# Altium integrated library Capacitors - Ceramic - 0201.IntLib: 1723 symbols (part 12 of 38)
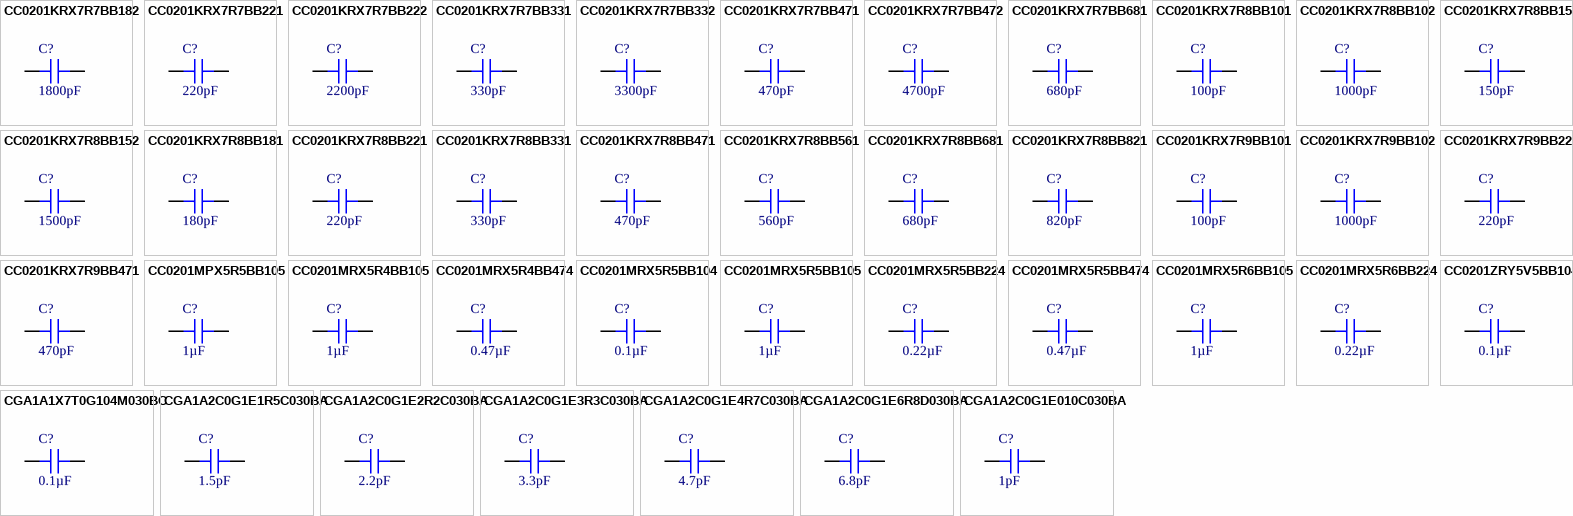
[diagram p54: symbols CC0201KRX7R7BB182 to CGA1A2C0G1E010C030BA]

## CC0201MRX5R5BB474
designator C?, comment 0.47µF
CAP CER 0.47UF 6.3V X5R 0201; Part Number: CC0201MRX5R5BB474; Manufacturer: Yageo; Tolerance: ±20%; Value: 0.47µF; Applications: General Purpose; Capacitance: 0.47µF; ComponentLink1Description: Datasheet; ComponentLink1URL: https://www.yageo.com/upload/media/product/productsearch/datasheet/mlcc/UPY-GPHC_X5R_4V-to-50V_25.pdf; ComponentLink2Description: DigiKey Link; ComponentLink2URL: http://digikey.com/product-detail/en/yageo/CC0201MRX5R5BB474/311-1614-1-ND/5195516; Device Package: 0201 (0603 Metric); LastUpdated: 9/2/2020 12:58:13 AM; Lifecycle Status: Active; Minimum Order: 1; Mounting Type: Surface Mount, MLCC; Operating Temperature: -55°C ~ 85°C; Package / Case: 0201 (0603 Metric); Packaging: TapeAndReel; PartId: 1455; Part Status: Active; Price: 0.03; Series: CC; Size / Dimension: 0.024" L x 0.012" W (0.60mm x 0.30mm); Supplier 1: DigiKey; Supplier Part Number 1: 311-1614-1-ND; Temperature Coefficient: X5R; Thickness (Max): 0.013" (0.33mm); Voltage - Rated: 6.3V
footprint CAP 0201_0603
pins: 1, 2

## CC0201MRX5R6BB105
designator C?, comment 1µF
CAP CER 1UF 10V X5R 0201; Part Number: CC0201MRX5R6BB105; Manufacturer: Yageo; Tolerance: ±20%; Value: 1µF; Applications: General Purpose; Capacitance: 1µF; ComponentLink1Description: Datasheet; ComponentLink1URL: https://www.yageo.com/upload/media/product/productsearch/datasheet/mlcc/UPY-GPHC_X5R_4V-to-50V_25.pdf; ComponentLink2Description: DigiKey Link; ComponentLink2URL: http://digikey.com/product-detail/en/yageo/CC0201MRX5R6BB105/311-3474-1-ND/7164495; Device Package: 0201 (0603 Metric); LastUpdated: 9/2/2020 12:59:16 AM; Lifecycle Status: Active; Minimum Order: 1; Mounting Type: Surface Mount, MLCC; Operating Temperature: -55°C ~ 85°C; Package / Case: 0201 (0603 Metric); Packaging: TapeAndReel; PartId: 738; Part Status: Active; Price: 0.03; Series: CC; Size / Dimension: 0.024" L x 0.012" W (0.60mm x 0.30mm); Supplier 1: DigiKey; Supplier Part Number 1: 311-3474-1-ND; Temperature Coefficient: X5R; Thickness (Max): 0.014" (0.35mm); Voltage - Rated: 10V
footprint CAP 0201_0603
pins: 1, 2

## CC0201MRX5R6BB224
designator C?, comment 0.22µF
CAP CER 0.22UF 10V X5R 0201; Part Number: CC0201MRX5R6BB224; Manufacturer: Yageo; Tolerance: ±20%; Value: 0.22µF; Applications: General Purpose; Capacitance: 0.22µF; ComponentLink1Description: Datasheet; ComponentLink1URL: https://www.yageo.com/upload/media/product/productsearch/datasheet/mlcc/UPY-GPHC_X5R_4V-to-50V_25.pdf; ComponentLink2Description: DigiKey Link; ComponentLink2URL: http://digikey.com/product-detail/en/yageo/CC0201MRX5R6BB224/311-3701-1-ND/8024790; Device Package: 0201 (0603 Metric); LastUpdated: 9/2/2020 12:59:13 AM; Lifecycle Status: Active; Minimum Order: 1; Mounting Type: Surface Mount, MLCC; Operating Temperature: -55°C ~ 85°C; Package / Case: 0201 (0603 Metric); Packaging: TapeAndReel; PartId: 765; Part Status: Active; Price: 0.01; Series: CC; Size / Dimension: 0.024" L x 0.012" W (0.60mm x 0.30mm); Supplier 1: DigiKey; Supplier Part Number 1: 311-3701-1-ND; Temperature Coefficient: X5R; Thickness (Max): 0.013" (0.33mm); Voltage - Rated: 10V
footprint CAP 0201_0603
pins: 1, 2

## CC0201ZRY5V5BB104
designator C?, comment 0.1µF
CAP CER 0.1UF 6.3V Y5V 0201; Part Number: CC0201ZRY5V5BB104; Manufacturer: Yageo; Temperature Coefficient: Y5V (F); Tolerance: -20%, +80%; Value: 0.1µF; Applications: General Purpose; Capacitance: 0.1µF; ComponentLink1Description: Datasheet; ComponentLink1URL: http://www.yageo.com/documents/recent/UPY-GPHC_Y5V_6.3V-to-50V_8.pdf; ComponentLink2Description: DigiKey Link; ComponentLink2URL: http://digikey.com/product-detail/en/yageo/CC0201ZRY5V5BB104/311-1413-1-ND/2833719; Device Package: 0201 (0603 Metric); LastUpdated: 9/2/2020 12:58:35 AM; Lifecycle Status: Active; Minimum Order: 1; Mounting Type: Surface Mount, MLCC; Operating Temperature: -30°C ~ 85°C; Package / Case: 0201 (0603 Metric); Packaging: TapeAndReel; PartId: 1218; Part Status: Active; Price: 0.01; Series: CC; Size / Dimension: 0.024" L x 0.012" W (0.60mm x 0.30mm); Supplier 1: DigiKey; Supplier Part Number 1: 311-1413-1-ND; Thickness (Max): 0.013" (0.33mm); Voltage - Rated: 6.3V
footprint CAP 0201_0603
pins: 1, 2

## CGA1A1X7T0G104M030BC
designator C?, comment 0.1µF
AUTOMOTIVE GRADE,0201,X7T,4V,0.1; Part Number: CGA1A1X7T0G104M030BC; Manufacturer: TDK Corporation; Tolerance: ±20%; Value: 0.1µF; Applications: Automotive; Capacitance: 0.1µF; ComponentLink1Description: Datasheet; ComponentLink1URL: https://product.tdk.com/info/en/catalog/datasheets/mlcc_automotive_general_en.pdf?ref_disty=digikey; ComponentLink2Description: DigiKey Link; ComponentLink2URL: http://digikey.com/product-detail/en/tdk-corporation/CGA1A1X7T0G104M030BC/445-CGA1A1X7T0G104M030BCCT-ND/10415021; Device Package: 0201 (0603 Metric); LastUpdated: 9/2/2020 12:58:40 AM; Lifecycle Status: Active; Minimum Order: 1; Mounting Type: Surface Mount, MLCC; Operating Temperature: -55°C ~ 125°C; Package / Case: 0201 (0603 Metric); Packaging: TapeAndReel; PartId: 1165; Part Status: Active; Price: 0.02; Ratings: AEC-Q200; Series: CGA; Size / Dimension: 0.024" L x 0.012" W (0.60mm x 0.30mm); Supplier 1: DigiKey; Supplier Part Number 1: 445-CGA1A1X7T0G104M030BCCT-ND; Temperature Coefficient: X7T; Thickness (Max): 0.013" (0.33mm); Voltage - Rated: 4V
footprint CAP 0201_0603
pins: 1, 2

## CGA1A2C0G1E1R5C030BA
designator C?, comment 1.5pF
CAP CER 1.5PF 25V C0G 0201; Part Number: CGA1A2C0G1E1R5C030BA; Manufacturer: TDK Corporation; Temperature Coefficient: C0G, NP0; Tolerance: ±0.25pF; Value: 1.5pF; Applications: Automotive; Capacitance: 1.5pF; ComponentLink1Description: Datasheet; ComponentLink1URL: https://product.tdk.com/info/en/catalog/datasheets/mlcc_automotive_general_en.pdf?ref_disty=digikey; ComponentLink2Description: DigiKey Link; ComponentLink2URL: http://digikey.com/product-detail/en/tdk-corporation/CGA1A2C0G1E1R5C030BA/445-9037-1-ND/3648710; Device Package: 0201 (0603 Metric); LastUpdated: 9/2/2020 12:59:20 AM; Lifecycle Status: Active; Minimum Order: 1; Mounting Type: Surface Mount, MLCC; Operating Temperature: -55°C ~ 125°C; Package / Case: 0201 (0603 Metric); Packaging: TapeAndReel; PartId: 698; Part Status: Active; Price: 0.01; Ratings: AEC-Q200; Series: CGA; Size / Dimension: 0.024" L x 0.012" W (0.60mm x 0.30mm); Supplier 1: DigiKey; Supplier Part Number 1: 445-9037-1-ND; Thickness (Max): 0.013" (0.33mm); Voltage - Rated: 25V
footprint CAP 0201_0603
pins: 1, 2

## CGA1A2C0G1E2R2C030BA
designator C?, comment 2.2pF
CAP CER 2.2PF 25V C0G 0201; Part Number: CGA1A2C0G1E2R2C030BA; Manufacturer: TDK Corporation; Temperature Coefficient: C0G, NP0; Tolerance: ±0.25pF; Value: 2.2pF; Applications: Automotive; Capacitance: 2.2pF; ComponentLink1Description: Datasheet; ComponentLink1URL: https://product.tdk.com/info/en/catalog/datasheets/mlcc_automotive_general_en.pdf?ref_disty=digikey; ComponentLink2Description: DigiKey Link; ComponentLink2URL: http://digikey.com/product-detail/en/tdk-corporation/CGA1A2C0G1E2R2C030BA/445-9017-1-ND/3648714; Device Package: 0201 (0603 Metric); LastUpdated: 9/2/2020 12:59:43 AM; Lifecycle Status: Active; Minimum Order: 1; Mounting Type: Surface Mount, MLCC; Operating Temperature: -55°C ~ 125°C; Package / Case: 0201 (0603 Metric); Packaging: TapeAndReel; PartId: 421; Part Status: Active; Price: 0.01; Ratings: AEC-Q200; Series: CGA; Size / Dimension: 0.024" L x 0.012" W (0.60mm x 0.30mm); Supplier 1: DigiKey; Supplier Part Number 1: 445-9017-1-ND; Thickness (Max): 0.013" (0.33mm); Voltage - Rated: 25V
footprint CAP 0201_0603
pins: 1, 2

## CGA1A2C0G1E3R3C030BA
designator C?, comment 3.3pF
CAP CER 3.3PF 25V C0G 0201; Part Number: CGA1A2C0G1E3R3C030BA; Manufacturer: TDK Corporation; Temperature Coefficient: C0G, NP0; Tolerance: ±0.25pF; Value: 3.3pF; Applications: Automotive; Capacitance: 3.3pF; ComponentLink1Description: Datasheet; ComponentLink1URL: https://product.tdk.com/info/en/catalog/datasheets/mlcc_automotive_general_en.pdf?ref_disty=digikey; ComponentLink2Description: DigiKey Link; ComponentLink2URL: http://digikey.com/product-detail/en/tdk-corporation/CGA1A2C0G1E3R3C030BA/445-9045-1-ND/3648732; Device Package: 0201 (0603 Metric); LastUpdated: 9/2/2020 12:58:47 AM; Lifecycle Status: Active; Minimum Order: 1; Mounting Type: Surface Mount, MLCC; Operating Temperature: -55°C ~ 125°C; Package / Case: 0201 (0603 Metric); Packaging: TapeAndReel; PartId: 1075; Part Status: Active; Price: 0.01; Ratings: AEC-Q200; Series: CGA; Size / Dimension: 0.024" L x 0.012" W (0.60mm x 0.30mm); Supplier 1: DigiKey; Supplier Part Number 1: 445-9045-1-ND; Thickness (Max): 0.013" (0.33mm); Voltage - Rated: 25V
footprint CAP 0201_0603
pins: 1, 2

## CGA1A2C0G1E4R7C030BA
designator C?, comment 4.7pF
CAP CER 4.7PF 25V C0G 0201; Part Number: CGA1A2C0G1E4R7C030BA; Manufacturer: TDK Corporation; Temperature Coefficient: C0G, NP0; Tolerance: ±0.25pF; Value: 4.7pF; Applications: Automotive; Capacitance: 4.7pF; ComponentLink1Description: Datasheet; ComponentLink1URL: https://product.tdk.com/info/en/catalog/datasheets/mlcc_automotive_general_en.pdf?ref_disty=digikey; ComponentLink2Description: DigiKey Link; ComponentLink2URL: http://digikey.com/product-detail/en/tdk-corporation/CGA1A2C0G1E4R7C030BA/445-9044-1-ND/3648669; Device Package: 0201 (0603 Metric); LastUpdated: 9/2/2020 12:59:21 AM; Lifecycle Status: Active; Minimum Order: 1; Mounting Type: Surface Mount, MLCC; Operating Temperature: -55°C ~ 125°C; Package / Case: 0201 (0603 Metric); Packaging: TapeAndReel; PartId: 678; Part Status: Active; Price: 0.01; Ratings: AEC-Q200; Series: CGA; Size / Dimension: 0.024" L x 0.012" W (0.60mm x 0.30mm); Supplier 1: DigiKey; Supplier Part Number 1: 445-9044-1-ND; Thickness (Max): 0.013" (0.33mm); Voltage - Rated: 25V
footprint CAP 0201_0603
pins: 1, 2

## CGA1A2C0G1E6R8D030BA
designator C?, comment 6.8pF
CAP CER 6.8PF 25V C0G 0201; Part Number: CGA1A2C0G1E6R8D030BA; Manufacturer: TDK Corporation; Temperature Coefficient: C0G, NP0; Tolerance: ±0.5pF; Value: 6.8pF; Applications: Automotive; Capacitance: 6.8pF; ComponentLink1Description: Datasheet; ComponentLink1URL: https://product.tdk.com/info/en/catalog/datasheets/mlcc_automotive_general_en.pdf?ref_disty=digikey; ComponentLink2Description: DigiKey Link; ComponentLink2URL: http://digikey.com/product-detail/en/tdk-corporation/CGA1A2C0G1E6R8D030BA/445-9026-1-ND/3648677; Device Package: 0201 (0603 Metric); LastUpdated: 9/2/2020 12:58:48 AM; Lifecycle Status: Active; Minimum Order: 1; Mounting Type: Surface Mount, MLCC; Operating Temperature: -55°C ~ 125°C; Package / Case: 0201 (0603 Metric); Packaging: TapeAndReel; PartId: 1061; Part Status: Active; Price: 0.01; Ratings: AEC-Q200; Series: CGA; Size / Dimension: 0.024" L x 0.012" W (0.60mm x 0.30mm); Supplier 1: DigiKey; Supplier Part Number 1: 445-9026-1-ND; Thickness (Max): 0.013" (0.33mm); Voltage - Rated: 25V
footprint CAP 0201_0603
pins: 1, 2

## CGA1A2C0G1E010C030BA
designator C?, comment 1pF
CAP CER 1PF 25V C0G 0201; Part Number: CGA1A2C0G1E010C030BA; Manufacturer: TDK Corporation; Temperature Coefficient: C0G, NP0; Tolerance: ±0.25pF; Value: 1pF; Applications: Automotive; Capacitance: 1pF; ComponentLink1Description: Datasheet; ComponentLink1URL: https://product.tdk.com/info/en/catalog/datasheets/mlcc_automotive_general_en.pdf?ref_disty=digikey; ComponentLink2Description: DigiKey Link; ComponentLink2URL: http://digikey.com/product-detail/en/tdk-corporation/CGA1A2C0G1E010C030BA/445-9047-1-ND/3648705; Device Package: 0201 (0603 Metric); LastUpdated: 9/2/2020 12:58:48 AM; Lifecycle Status: Active; Minimum Order: 1; Mounting Type: Surface Mount, MLCC; Operating Temperature: -55°C ~ 125°C; Package / Case: 0201 (0603 Metric); Packaging: TapeAndReel; PartId: 1070; Part Status: Active; Price: 0.01; Ratings: AEC-Q200; Series: CGA; Size / Dimension: 0.024" L x 0.012" W (0.60mm x 0.30mm); Supplier 1: DigiKey; Supplier Part Number 1: 445-9047-1-ND; Thickness (Max): 0.013" (0.33mm); Voltage - Rated: 25V
footprint CAP 0201_0603
pins: 1, 2

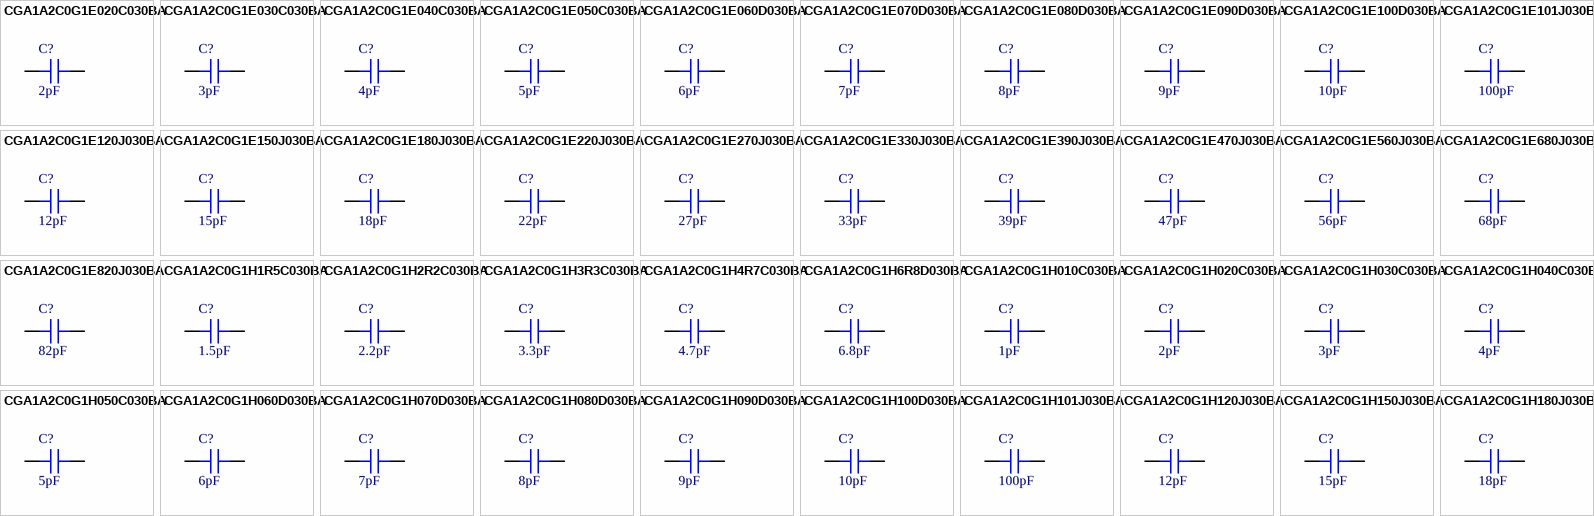
[diagram p13: symbols CGA1A2C0G1E020C030BA to CGA1A2C0G1H180J030BA]

## CGA1A2C0G1E020C030BA
designator C?, comment 2pF
CAP CER 2PF 25V C0G 0201; Part Number: CGA1A2C0G1E020C030BA; Manufacturer: TDK Corporation; Temperature Coefficient: C0G, NP0; Tolerance: ±0.25pF; Value: 2pF; Applications: Automotive; Capacitance: 2pF; ComponentLink1Description: Datasheet; ComponentLink1URL: https://product.tdk.com/info/en/catalog/datasheets/mlcc_automotive_general_en.pdf?ref_disty=digikey; ComponentLink2Description: DigiKey Link; ComponentLink2URL: http://digikey.com/product-detail/en/tdk-corporation/CGA1A2C0G1E020C030BA/445-12047-1-ND/3953713; Device Package: 0201 (0603 Metric); LastUpdated: 9/2/2020 12:59:24 AM; Lifecycle Status: Active; Minimum Order: 1; Mounting Type: Surface Mount, MLCC; Operating Temperature: -55°C ~ 125°C; Package / Case: 0201 (0603 Metric); Packaging: TapeAndReel; PartId: 650; Part Status: Active; Price: 0.01; Ratings: AEC-Q200; Series: CGA; Size / Dimension: 0.024" L x 0.012" W (0.60mm x 0.30mm); Supplier 1: DigiKey; Supplier Part Number 1: 445-12047-1-ND; Thickness (Max): 0.013" (0.33mm); Voltage - Rated: 25V
footprint CAP 0201_0603
pins: 1, 2

## CGA1A2C0G1E030C030BA
designator C?, comment 3pF
CAP CER 3PF 25V C0G 0201; Part Number: CGA1A2C0G1E030C030BA; Manufacturer: TDK Corporation; Temperature Coefficient: C0G, NP0; Tolerance: ±0.25pF; Value: 3pF; Applications: Automotive; Capacitance: 3pF; ComponentLink1Description: Datasheet; ComponentLink1URL: https://product.tdk.com/info/en/catalog/datasheets/mlcc_automotive_general_en.pdf?ref_disty=digikey; ComponentLink2Description: DigiKey Link; ComponentLink2URL: http://digikey.com/product-detail/en/tdk-corporation/CGA1A2C0G1E030C030BA/445-9029-1-ND/3648717; Device Package: 0201 (0603 Metric); LastUpdated: 9/2/2020 12:59:24 AM; Lifecycle Status: Active; Minimum Order: 1; Mounting Type: Surface Mount, MLCC; Operating Temperature: -55°C ~ 125°C; Package / Case: 0201 (0603 Metric); Packaging: TapeAndReel; PartId: 651; Part Status: Active; Price: 0.01; Ratings: AEC-Q200; Series: CGA; Size / Dimension: 0.024" L x 0.012" W (0.60mm x 0.30mm); Supplier 1: DigiKey; Supplier Part Number 1: 445-9029-1-ND; Thickness (Max): 0.013" (0.33mm); Voltage - Rated: 25V
footprint CAP 0201_0603
pins: 1, 2

## CGA1A2C0G1E040C030BA
designator C?, comment 4pF
CAP CER 4PF 25V C0G 0201; Part Number: CGA1A2C0G1E040C030BA; Manufacturer: TDK Corporation; Temperature Coefficient: C0G, NP0; Tolerance: ±0.25pF; Value: 4pF; Applications: Automotive; Capacitance: 4pF; ComponentLink1Description: Datasheet; ComponentLink1URL: https://product.tdk.com/info/en/catalog/datasheets/mlcc_automotive_general_en.pdf?ref_disty=digikey; ComponentLink2Description: DigiKey Link; ComponentLink2URL: http://digikey.com/product-detail/en/tdk-corporation/CGA1A2C0G1E040C030BA/445-12048-1-ND/3953714; Device Package: 0201 (0603 Metric); LastUpdated: 9/2/2020 12:59:25 AM; Lifecycle Status: Active; Minimum Order: 1; Mounting Type: Surface Mount, MLCC; Operating Temperature: -55°C ~ 125°C; Package / Case: 0201 (0603 Metric); Packaging: TapeAndReel; PartId: 635; Part Status: Active; Price: 0.01; Ratings: AEC-Q200; Series: CGA; Size / Dimension: 0.024" L x 0.012" W (0.60mm x 0.30mm); Supplier 1: DigiKey; Supplier Part Number 1: 445-12048-1-ND; Thickness (Max): 0.013" (0.33mm); Voltage - Rated: 25V
footprint CAP 0201_0603
pins: 1, 2

## CGA1A2C0G1E050C030BA
designator C?, comment 5pF
CAP CER 5PF 25V C0G 0201; Part Number: CGA1A2C0G1E050C030BA; Manufacturer: TDK Corporation; Temperature Coefficient: C0G, NP0; Tolerance: ±0.25pF; Value: 5pF; Applications: Automotive; Capacitance: 5pF; ComponentLink1Description: Datasheet; ComponentLink1URL: https://product.tdk.com/info/en/catalog/datasheets/mlcc_automotive_general_en.pdf?ref_disty=digikey; ComponentLink2Description: DigiKey Link; ComponentLink2URL: http://digikey.com/product-detail/en/tdk-corporation/CGA1A2C0G1E050C030BA/445-9043-1-ND/3648618; Device Package: 0201 (0603 Metric); LastUpdated: 9/2/2020 12:59:24 AM; Lifecycle Status: Active; Minimum Order: 1; Mounting Type: Surface Mount, MLCC; Operating Temperature: -55°C ~ 125°C; Package / Case: 0201 (0603 Metric); Packaging: TapeAndReel; PartId: 645; Part Status: Active; Price: 0.01; Ratings: AEC-Q200; Series: CGA; Size / Dimension: 0.024" L x 0.012" W (0.60mm x 0.30mm); Supplier 1: DigiKey; Supplier Part Number 1: 445-9043-1-ND; Thickness (Max): 0.013" (0.33mm); Voltage - Rated: 25V
footprint CAP 0201_0603
pins: 1, 2

## CGA1A2C0G1E060D030BA
designator C?, comment 6pF
CAP CER 6PF 25V C0G 0201; Part Number: CGA1A2C0G1E060D030BA; Manufacturer: TDK Corporation; Temperature Coefficient: C0G, NP0; Tolerance: ±0.5pF; Value: 6pF; Applications: Automotive; Capacitance: 6pF; ComponentLink1Description: Datasheet; ComponentLink1URL: https://product.tdk.com/info/en/catalog/datasheets/mlcc_automotive_general_en.pdf?ref_disty=digikey; ComponentLink2Description: DigiKey Link; ComponentLink2URL: http://digikey.com/product-detail/en/tdk-corporation/CGA1A2C0G1E060D030BA/445-12049-1-ND/3953715; Device Package: 0201 (0603 Metric); LastUpdated: 9/2/2020 12:59:25 AM; Lifecycle Status: Active; Minimum Order: 1; Mounting Type: Surface Mount, MLCC; Operating Temperature: -55°C ~ 125°C; Package / Case: 0201 (0603 Metric); Packaging: TapeAndReel; PartId: 637; Part Status: Active; Price: 0.01; Ratings: AEC-Q200; Series: CGA; Size / Dimension: 0.024" L x 0.012" W (0.60mm x 0.30mm); Supplier 1: DigiKey; Supplier Part Number 1: 445-12049-1-ND; Thickness (Max): 0.013" (0.33mm); Voltage - Rated: 25V
footprint CAP 0201_0603
pins: 1, 2

## CGA1A2C0G1E070D030BA
designator C?, comment 7pF
CAP CER 7PF 25V C0G 0201; Part Number: CGA1A2C0G1E070D030BA; Manufacturer: TDK Corporation; Temperature Coefficient: C0G, NP0; Tolerance: ±0.5pF; Value: 7pF; Applications: Automotive; Capacitance: 7pF; ComponentLink1Description: Datasheet; ComponentLink1URL: https://product.tdk.com/info/en/catalog/datasheets/mlcc_automotive_general_en.pdf?ref_disty=digikey; ComponentLink2Description: DigiKey Link; ComponentLink2URL: http://digikey.com/product-detail/en/tdk-corporation/CGA1A2C0G1E070D030BA/445-12050-1-ND/3953716; Device Package: 0201 (0603 Metric); LastUpdated: 9/2/2020 12:59:24 AM; Lifecycle Status: Active; Minimum Order: 1; Mounting Type: Surface Mount, MLCC; Operating Temperature: -55°C ~ 125°C; Package / Case: 0201 (0603 Metric); Packaging: TapeAndReel; PartId: 641; Part Status: Active; Price: 0.01; Ratings: AEC-Q200; Series: CGA; Size / Dimension: 0.024" L x 0.012" W (0.60mm x 0.30mm); Supplier 1: DigiKey; Supplier Part Number 1: 445-12050-1-ND; Thickness (Max): 0.013" (0.33mm); Voltage - Rated: 25V
footprint CAP 0201_0603
pins: 1, 2

## CGA1A2C0G1E080D030BA
designator C?, comment 8pF
CAP CER 8PF 25V C0G 0201; Part Number: CGA1A2C0G1E080D030BA; Manufacturer: TDK Corporation; Temperature Coefficient: C0G, NP0; Tolerance: ±0.5pF; Value: 8pF; Applications: Automotive; Capacitance: 8pF; ComponentLink1Description: Datasheet; ComponentLink1URL: https://product.tdk.com/info/en/catalog/datasheets/mlcc_automotive_general_en.pdf?ref_disty=digikey; ComponentLink2Description: DigiKey Link; ComponentLink2URL: http://digikey.com/product-detail/en/tdk-corporation/CGA1A2C0G1E080D030BA/445-12051-1-ND/3953717; Device Package: 0201 (0603 Metric); LastUpdated: 9/2/2020 12:59:25 AM; Lifecycle Status: Active; Minimum Order: 1; Mounting Type: Surface Mount, MLCC; Operating Temperature: -55°C ~ 125°C; Package / Case: 0201 (0603 Metric); Packaging: TapeAndReel; PartId: 636; Part Status: Active; Price: 0.01; Ratings: AEC-Q200; Series: CGA; Size / Dimension: 0.024" L x 0.012" W (0.60mm x 0.30mm); Supplier 1: DigiKey; Supplier Part Number 1: 445-12051-1-ND; Thickness (Max): 0.013" (0.33mm); Voltage - Rated: 25V
footprint CAP 0201_0603
pins: 1, 2

## CGA1A2C0G1E090D030BA
designator C?, comment 9pF
CAP CER 9PF 25V C0G 0201; Part Number: CGA1A2C0G1E090D030BA; Manufacturer: TDK Corporation; Temperature Coefficient: C0G, NP0; Tolerance: ±0.5pF; Value: 9pF; Applications: Automotive; Capacitance: 9pF; ComponentLink1Description: Datasheet; ComponentLink1URL: https://product.tdk.com/info/en/catalog/datasheets/mlcc_automotive_general_en.pdf?ref_disty=digikey; ComponentLink2Description: DigiKey Link; ComponentLink2URL: http://digikey.com/product-detail/en/tdk-corporation/CGA1A2C0G1E090D030BA/445-12052-1-ND/3953718; Device Package: 0201 (0603 Metric); LastUpdated: 9/2/2020 12:58:48 AM; Lifecycle Status: Active; Minimum Order: 1; Mounting Type: Surface Mount, MLCC; Operating Temperature: -55°C ~ 125°C; Package / Case: 0201 (0603 Metric); Packaging: TapeAndReel; PartId: 1072; Part Status: Active; Price: 0.01; Ratings: AEC-Q200; Series: CGA; Size / Dimension: 0.024" L x 0.012" W (0.60mm x 0.30mm); Supplier 1: DigiKey; Supplier Part Number 1: 445-12052-1-ND; Thickness (Max): 0.013" (0.33mm); Voltage - Rated: 25V
footprint CAP 0201_0603
pins: 1, 2

## CGA1A2C0G1E100D030BA
designator C?, comment 10pF
CAP CER 10PF 25V C0G 0201; Part Number: CGA1A2C0G1E100D030BA; Manufacturer: TDK Corporation; Temperature Coefficient: C0G, NP0; Tolerance: ±0.5pF; Value: 10pF; Applications: Automotive; Capacitance: 10pF; ComponentLink1Description: Datasheet; ComponentLink1URL: https://product.tdk.com/info/en/catalog/datasheets/mlcc_automotive_general_en.pdf?ref_disty=digikey; ComponentLink2Description: DigiKey Link; ComponentLink2URL: http://digikey.com/product-detail/en/tdk-corporation/CGA1A2C0G1E100D030BA/445-9023-1-ND/3648633; Device Package: 0201 (0603 Metric); LastUpdated: 9/2/2020 12:59:25 AM; Lifecycle Status: Active; Minimum Order: 1; Mounting Type: Surface Mount, MLCC; Operating Temperature: -55°C ~ 125°C; Package / Case: 0201 (0603 Metric); Packaging: TapeAndReel; PartId: 640; Part Status: Active; Price: 0.01; Ratings: AEC-Q200; Series: CGA; Size / Dimension: 0.024" L x 0.012" W (0.60mm x 0.30mm); Supplier 1: DigiKey; Supplier Part Number 1: 445-9023-1-ND; Thickness (Max): 0.013" (0.33mm); Voltage - Rated: 25V
footprint CAP 0201_0603
pins: 1, 2

## CGA1A2C0G1E101J030BA
designator C?, comment 100pF
CAP CER 100PF 25V C0G 0201; Part Number: CGA1A2C0G1E101J030BA; Manufacturer: TDK Corporation; Temperature Coefficient: C0G, NP0; Tolerance: ±5%; Value: 100pF; Applications: Automotive; Capacitance: 100pF; ComponentLink1Description: Datasheet; ComponentLink1URL: https://product.tdk.com/info/en/catalog/datasheets/mlcc_automotive_general_en.pdf?ref_disty=digikey; ComponentLink2Description: DigiKey Link; ComponentLink2URL: http://digikey.com/product-detail/en/tdk-corporation/CGA1A2C0G1E101J030BA/445-9014-1-ND/3648671; Device Package: 0201 (0603 Metric); LastUpdated: 9/2/2020 12:59:06 AM; Lifecycle Status: Active; Minimum Order: 1; Mounting Type: Surface Mount, MLCC; Operating Temperature: -55°C ~ 125°C; Package / Case: 0201 (0603 Metric); Packaging: TapeAndReel; PartId: 852; Part Status: Active; Price: 0.01; Ratings: AEC-Q200; Series: CGA; Size / Dimension: 0.024" L x 0.012" W (0.60mm x 0.30mm); Supplier 1: DigiKey; Supplier Part Number 1: 445-9014-1-ND; Thickness (Max): 0.013" (0.33mm); Voltage - Rated: 25V
footprint CAP 0201_0603
pins: 1, 2

## CGA1A2C0G1E120J030BA
designator C?, comment 12pF
CAP CER 12PF 25V C0G 0201; Part Number: CGA1A2C0G1E120J030BA; Manufacturer: TDK Corporation; Temperature Coefficient: C0G, NP0; Tolerance: ±5%; Value: 12pF; Applications: Automotive; Capacitance: 12pF; ComponentLink1Description: Datasheet; ComponentLink1URL: https://product.tdk.com/info/en/catalog/datasheets/mlcc_automotive_general_en.pdf?ref_disty=digikey; ComponentLink2Description: DigiKey Link; ComponentLink2URL: http://digikey.com/product-detail/en/tdk-corporation/CGA1A2C0G1E120J030BA/445-9070-1-ND/3648638; Device Package: 0201 (0603 Metric); LastUpdated: 9/2/2020 12:59:24 AM; Lifecycle Status: Active; Minimum Order: 1; Mounting Type: Surface Mount, MLCC; Operating Temperature: -55°C ~ 125°C; Package / Case: 0201 (0603 Metric); Packaging: TapeAndReel; PartId: 644; Part Status: Active; Price: 0.01; Ratings: AEC-Q200; Series: CGA; Size / Dimension: 0.024" L x 0.012" W (0.60mm x 0.30mm); Supplier 1: DigiKey; Supplier Part Number 1: 445-9070-1-ND; Thickness (Max): 0.013" (0.33mm); Voltage - Rated: 25V
footprint CAP 0201_0603
pins: 1, 2

## CGA1A2C0G1E150J030BA
designator C?, comment 15pF
CAP CER 15PF 25V C0G 0201; Part Number: CGA1A2C0G1E150J030BA; Manufacturer: TDK Corporation; Temperature Coefficient: C0G, NP0; Tolerance: ±5%; Value: 15pF; Applications: Automotive; Capacitance: 15pF; ComponentLink1Description: Datasheet; ComponentLink1URL: https://product.tdk.com/info/en/catalog/datasheets/mlcc_automotive_general_en.pdf?ref_disty=digikey; ComponentLink2Description: DigiKey Link; ComponentLink2URL: http://digikey.com/product-detail/en/tdk-corporation/CGA1A2C0G1E150J030BA/445-9034-1-ND/3648614; Device Package: 0201 (0603 Metric); LastUpdated: 9/2/2020 12:57:54 AM; Lifecycle Status: Active; Minimum Order: 1; Mounting Type: Surface Mount, MLCC; Operating Temperature: -55°C ~ 125°C; Package / Case: 0201 (0603 Metric); Packaging: TapeAndReel; PartId: 1675; Part Status: Active; Price: 0.01; Ratings: AEC-Q200; Series: CGA; Size / Dimension: 0.024" L x 0.012" W (0.60mm x 0.30mm); Supplier 1: DigiKey; Supplier Part Number 1: 445-9034-1-ND; Thickness (Max): 0.013" (0.33mm); Voltage - Rated: 25V
footprint CAP 0201_0603
pins: 1, 2

## CGA1A2C0G1E180J030BA
designator C?, comment 18pF
CAP CER 18PF 25V C0G 0201; Part Number: CGA1A2C0G1E180J030BA; Manufacturer: TDK Corporation; Temperature Coefficient: C0G, NP0; Tolerance: ±5%; Value: 18pF; Applications: Automotive; Capacitance: 18pF; ComponentLink1Description: Datasheet; ComponentLink1URL: https://product.tdk.com/info/en/catalog/datasheets/mlcc_automotive_general_en.pdf?ref_disty=digikey; ComponentLink2Description: DigiKey Link; ComponentLink2URL: http://digikey.com/product-detail/en/tdk-corporation/CGA1A2C0G1E180J030BA/445-9067-1-ND/3648623; Device Package: 0201 (0603 Metric); LastUpdated: 9/2/2020 12:59:24 AM; Lifecycle Status: Active; Minimum Order: 1; Mounting Type: Surface Mount, MLCC; Operating Temperature: -55°C ~ 125°C; Package / Case: 0201 (0603 Metric); Packaging: TapeAndReel; PartId: 643; Part Status: Active; Price: 0.01; Ratings: AEC-Q200; Series: CGA; Size / Dimension: 0.024" L x 0.012" W (0.60mm x 0.30mm); Supplier 1: DigiKey; Supplier Part Number 1: 445-9067-1-ND; Thickness (Max): 0.013" (0.33mm); Voltage - Rated: 25V
footprint CAP 0201_0603
pins: 1, 2

## CGA1A2C0G1E220J030BA
designator C?, comment 22pF
CAP CER 22PF 25V C0G 0201; Part Number: CGA1A2C0G1E220J030BA; Manufacturer: TDK Corporation; Temperature Coefficient: C0G, NP0; Tolerance: ±5%; Value: 22pF; Applications: Automotive; Capacitance: 22pF; ComponentLink1Description: Datasheet; ComponentLink1URL: https://product.tdk.com/info/en/catalog/datasheets/mlcc_automotive_general_en.pdf?ref_disty=digikey; ComponentLink2Description: DigiKey Link; ComponentLink2URL: http://digikey.com/product-detail/en/tdk-corporation/CGA1A2C0G1E220J030BA/445-9020-1-ND/3648632; Device Package: 0201 (0603 Metric); LastUpdated: 9/2/2020 12:57:53 AM; Lifecycle Status: Active; Minimum Order: 1; Mounting Type: Surface Mount, MLCC; Operating Temperature: -55°C ~ 125°C; Package / Case: 0201 (0603 Metric); Packaging: TapeAndReel; PartId: 1684; Part Status: Active; Price: 0.01; Ratings: AEC-Q200; Series: CGA; Size / Dimension: 0.024" L x 0.012" W (0.60mm x 0.30mm); Supplier 1: DigiKey; Supplier Part Number 1: 445-9020-1-ND; Thickness (Max): 0.013" (0.33mm); Voltage - Rated: 25V
footprint CAP 0201_0603
pins: 1, 2

## CGA1A2C0G1E270J030BA
designator C?, comment 27pF
CAP CER 27PF 25V C0G 0201; Part Number: CGA1A2C0G1E270J030BA; Manufacturer: TDK Corporation; Temperature Coefficient: C0G, NP0; Tolerance: ±5%; Value: 27pF; Applications: Automotive; Capacitance: 27pF; ComponentLink1Description: Datasheet; ComponentLink1URL: https://product.tdk.com/info/en/catalog/datasheets/mlcc_automotive_general_en.pdf?ref_disty=digikey; ComponentLink2Description: DigiKey Link; ComponentLink2URL: http://digikey.com/product-detail/en/tdk-corporation/CGA1A2C0G1E270J030BA/445-9038-1-ND/3648642; Device Package: 0201 (0603 Metric); LastUpdated: 9/2/2020 12:57:53 AM; Lifecycle Status: Active; Minimum Order: 1; Mounting Type: Surface Mount, MLCC; Operating Temperature: -55°C ~ 125°C; Package / Case: 0201 (0603 Metric); Packaging: TapeAndReel; PartId: 1685; Part Status: Active; Price: 0.01; Ratings: AEC-Q200; Series: CGA; Size / Dimension: 0.024" L x 0.012" W (0.60mm x 0.30mm); Supplier 1: DigiKey; Supplier Part Number 1: 445-9038-1-ND; Thickness (Max): 0.013" (0.33mm); Voltage - Rated: 25V
footprint CAP 0201_0603
pins: 1, 2

## CGA1A2C0G1E330J030BA
designator C?, comment 33pF
CAP CER 33PF 25V C0G 0201; Part Number: CGA1A2C0G1E330J030BA; Manufacturer: TDK Corporation; Temperature Coefficient: C0G, NP0; Tolerance: ±5%; Value: 33pF; Applications: Automotive; Capacitance: 33pF; ComponentLink1Description: Datasheet; ComponentLink1URL: https://product.tdk.com/info/en/catalog/datasheets/mlcc_automotive_general_en.pdf?ref_disty=digikey; ComponentLink2Description: DigiKey Link; ComponentLink2URL: http://digikey.com/product-detail/en/tdk-corporation/CGA1A2C0G1E330J030BA/445-9059-1-ND/3648650; Device Package: 0201 (0603 Metric); LastUpdated: 9/2/2020 12:57:54 AM; Lifecycle Status: Active; Minimum Order: 1; Mounting Type: Surface Mount, MLCC; Operating Temperature: -55°C ~ 125°C; Package / Case: 0201 (0603 Metric); Packaging: TapeAndReel; PartId: 1676; Part Status: Active; Price: 0.01; Ratings: AEC-Q200; Series: CGA; Size / Dimension: 0.024" L x 0.012" W (0.60mm x 0.30mm); Supplier 1: DigiKey; Supplier Part Number 1: 445-9059-1-ND; Thickness (Max): 0.013" (0.33mm); Voltage - Rated: 25V
footprint CAP 0201_0603
pins: 1, 2

## CGA1A2C0G1E390J030BA
designator C?, comment 39pF
CAP CER 39PF 25V C0G 0201; Part Number: CGA1A2C0G1E390J030BA; Manufacturer: TDK Corporation; Temperature Coefficient: C0G, NP0; Tolerance: ±5%; Value: 39pF; Applications: Automotive; Capacitance: 39pF; ComponentLink1Description: Datasheet; ComponentLink1URL: https://product.tdk.com/info/en/catalog/datasheets/mlcc_automotive_general_en.pdf?ref_disty=digikey; ComponentLink2Description: DigiKey Link; ComponentLink2URL: http://digikey.com/product-detail/en/tdk-corporation/CGA1A2C0G1E390J030BA/445-9021-1-ND/3648658; Device Package: 0201 (0603 Metric); LastUpdated: 9/2/2020 12:59:24 AM; Lifecycle Status: Active; Minimum Order: 1; Mounting Type: Surface Mount, MLCC; Operating Temperature: -55°C ~ 125°C; Package / Case: 0201 (0603 Metric); Packaging: TapeAndReel; PartId: 642; Part Status: Active; Price: 0.01; Ratings: AEC-Q200; Series: CGA; Size / Dimension: 0.024" L x 0.012" W (0.60mm x 0.30mm); Supplier 1: DigiKey; Supplier Part Number 1: 445-9021-1-ND; Thickness (Max): 0.013" (0.33mm); Voltage - Rated: 25V
footprint CAP 0201_0603
pins: 1, 2

## CGA1A2C0G1E470J030BA
designator C?, comment 47pF
CAP CER 47PF 25V C0G 0201; Part Number: CGA1A2C0G1E470J030BA; Manufacturer: TDK Corporation; Temperature Coefficient: C0G, NP0; Tolerance: ±5%; Value: 47pF; Applications: Automotive; Capacitance: 47pF; ComponentLink1Description: Datasheet; ComponentLink1URL: https://product.tdk.com/info/en/catalog/datasheets/mlcc_automotive_general_en.pdf?ref_disty=digikey; ComponentLink2Description: DigiKey Link; ComponentLink2URL: http://digikey.com/product-detail/en/tdk-corporation/CGA1A2C0G1E470J030BA/445-9055-1-ND/3648668; Device Package: 0201 (0603 Metric); LastUpdated: 9/2/2020 12:58:47 AM; Lifecycle Status: Active; Minimum Order: 1; Mounting Type: Surface Mount, MLCC; Operating Temperature: -55°C ~ 125°C; Package / Case: 0201 (0603 Metric); Packaging: TapeAndReel; PartId: 1077; Part Status: Active; Price: 0.01; Ratings: AEC-Q200; Series: CGA; Size / Dimension: 0.024" L x 0.012" W (0.60mm x 0.30mm); Supplier 1: DigiKey; Supplier Part Number 1: 445-9055-1-ND; Thickness (Max): 0.013" (0.33mm); Voltage - Rated: 25V
footprint CAP 0201_0603
pins: 1, 2

## CGA1A2C0G1E560J030BA
designator C?, comment 56pF
CAP CER 56PF 25V C0G 0201; Part Number: CGA1A2C0G1E560J030BA; Manufacturer: TDK Corporation; Temperature Coefficient: C0G, NP0; Tolerance: ±5%; Value: 56pF; Applications: Automotive; Capacitance: 56pF; ComponentLink1Description: Datasheet; ComponentLink1URL: https://product.tdk.com/info/en/catalog/datasheets/mlcc_automotive_general_en.pdf?ref_disty=digikey; ComponentLink2Description: DigiKey Link; ComponentLink2URL: http://digikey.com/product-detail/en/tdk-corporation/CGA1A2C0G1E560J030BA/445-9041-1-ND/3648728; Device Package: 0201 (0603 Metric); LastUpdated: 9/2/2020 12:59:24 AM; Lifecycle Status: Active; Minimum Order: 1; Mounting Type: Surface Mount, MLCC; Operating Temperature: -55°C ~ 125°C; Package / Case: 0201 (0603 Metric); Packaging: TapeAndReel; PartId: 647; Part Status: Active; Price: 0.01; Ratings: AEC-Q200; Series: CGA; Size / Dimension: 0.024" L x 0.012" W (0.60mm x 0.30mm); Supplier 1: DigiKey; Supplier Part Number 1: 445-9041-1-ND; Thickness (Max): 0.013" (0.33mm); Voltage - Rated: 25V
footprint CAP 0201_0603
pins: 1, 2

## CGA1A2C0G1E680J030BA
designator C?, comment 68pF
CAP CER 68PF 25V C0G 0201; Part Number: CGA1A2C0G1E680J030BA; Manufacturer: TDK Corporation; Temperature Coefficient: C0G, NP0; Tolerance: ±5%; Value: 68pF; Applications: Automotive; Capacitance: 68pF; ComponentLink1Description: Datasheet; ComponentLink1URL: https://product.tdk.com/info/en/catalog/datasheets/mlcc_automotive_general_en.pdf?ref_disty=digikey; ComponentLink2Description: DigiKey Link; ComponentLink2URL: http://digikey.com/product-detail/en/tdk-corporation/CGA1A2C0G1E680J030BA/445-9060-1-ND/3648733; Device Package: 0201 (0603 Metric); LastUpdated: 9/2/2020 12:58:48 AM; Lifecycle Status: Active; Minimum Order: 1; Mounting Type: Surface Mount, MLCC; Operating Temperature: -55°C ~ 125°C; Package / Case: 0201 (0603 Metric); Packaging: TapeAndReel; PartId: 1063; Part Status: Active; Price: 0.01; Ratings: AEC-Q200; Series: CGA; Size / Dimension: 0.024" L x 0.012" W (0.60mm x 0.30mm); Supplier 1: DigiKey; Supplier Part Number 1: 445-9060-1-ND; Thickness (Max): 0.013" (0.33mm); Voltage - Rated: 25V
footprint CAP 0201_0603
pins: 1, 2

## CGA1A2C0G1E820J030BA
designator C?, comment 82pF
CAP CER 82PF 25V C0G 0201; Part Number: CGA1A2C0G1E820J030BA; Manufacturer: TDK Corporation; Temperature Coefficient: C0G, NP0; Tolerance: ±5%; Value: 82pF; Applications: Automotive; Capacitance: 82pF; ComponentLink1Description: Datasheet; ComponentLink1URL: https://product.tdk.com/info/en/catalog/datasheets/mlcc_automotive_general_en.pdf?ref_disty=digikey; ComponentLink2Description: DigiKey Link; ComponentLink2URL: http://digikey.com/product-detail/en/tdk-corporation/CGA1A2C0G1E820J030BA/445-9036-1-ND/3648736; Device Package: 0201 (0603 Metric); LastUpdated: 9/2/2020 12:58:48 AM; Lifecycle Status: Active; Minimum Order: 1; Mounting Type: Surface Mount, MLCC; Operating Temperature: -55°C ~ 125°C; Package / Case: 0201 (0603 Metric); Packaging: TapeAndReel; PartId: 1071; Part Status: Active; Price: 0.01; Ratings: AEC-Q200; Series: CGA; Size / Dimension: 0.024" L x 0.012" W (0.60mm x 0.30mm); Supplier 1: DigiKey; Supplier Part Number 1: 445-9036-1-ND; Thickness (Max): 0.013" (0.33mm); Voltage - Rated: 25V
footprint CAP 0201_0603
pins: 1, 2

## CGA1A2C0G1H1R5C030BA
designator C?, comment 1.5pF
CAP CER 1.5PF 50V C0G 0201; Part Number: CGA1A2C0G1H1R5C030BA; Manufacturer: TDK Corporation; Temperature Coefficient: C0G, NP0; Tolerance: ±0.25pF; Value: 1.5pF; Applications: Automotive; Capacitance: 1.5pF; ComponentLink1Description: Datasheet; ComponentLink1URL: https://product.tdk.com/info/en/catalog/datasheets/mlcc_automotive_general_en.pdf?ref_disty=digikey; ComponentLink2Description: DigiKey Link; ComponentLink2URL: http://digikey.com/product-detail/en/tdk-corporation/CGA1A2C0G1H1R5C030BA/445-9048-1-ND/3648706; Device Package: 0201 (0603 Metric); LastUpdated: 9/2/2020 12:59:40 AM; Lifecycle Status: Active; Minimum Order: 1; Mounting Type: Surface Mount, MLCC; Operating Temperature: -55°C ~ 125°C; Package / Case: 0201 (0603 Metric); Packaging: TapeAndReel; PartId: 463; Part Status: Active; Price: 0.02; Ratings: AEC-Q200; Series: CGA; Size / Dimension: 0.024" L x 0.012" W (0.60mm x 0.30mm); Supplier 1: DigiKey; Supplier Part Number 1: 445-9048-1-ND; Thickness (Max): 0.013" (0.33mm); Voltage - Rated: 50V
footprint CAP 0201_0603
pins: 1, 2

## CGA1A2C0G1H2R2C030BA
designator C?, comment 2.2pF
CAP CER 2.2PF 50V C0G 0201; Part Number: CGA1A2C0G1H2R2C030BA; Manufacturer: TDK Corporation; Temperature Coefficient: C0G, NP0; Tolerance: ±0.25pF; Value: 2.2pF; Applications: Automotive; Capacitance: 2.2pF; ComponentLink1Description: Datasheet; ComponentLink1URL: https://product.tdk.com/info/en/catalog/datasheets/mlcc_automotive_general_en.pdf?ref_disty=digikey; ComponentLink2Description: DigiKey Link; ComponentLink2URL: http://digikey.com/product-detail/en/tdk-corporation/CGA1A2C0G1H2R2C030BA/445-9058-1-ND/3648651; Device Package: 0201 (0603 Metric); LastUpdated: 9/2/2020 12:57:52 AM; Lifecycle Status: Active; Minimum Order: 1; Mounting Type: Surface Mount, MLCC; Operating Temperature: -55°C ~ 125°C; Package / Case: 0201 (0603 Metric); Packaging: TapeAndReel; PartId: 1692; Part Status: Active; Price: 0.02; Ratings: AEC-Q200; Series: CGA; Size / Dimension: 0.024" L x 0.012" W (0.60mm x 0.30mm); Supplier 1: DigiKey; Supplier Part Number 1: 445-9058-1-ND; Thickness (Max): 0.013" (0.33mm); Voltage - Rated: 50V
footprint CAP 0201_0603
pins: 1, 2

## CGA1A2C0G1H3R3C030BA
designator C?, comment 3.3pF
CAP CER 3.3PF 50V C0G 0201; Part Number: CGA1A2C0G1H3R3C030BA; Manufacturer: TDK Corporation; Temperature Coefficient: C0G, NP0; Tolerance: ±0.25pF; Value: 3.3pF; Applications: Automotive; Capacitance: 3.3pF; ComponentLink1Description: Datasheet; ComponentLink1URL: https://product.tdk.com/info/en/catalog/datasheets/mlcc_automotive_general_en.pdf?ref_disty=digikey; ComponentLink2Description: DigiKey Link; ComponentLink2URL: http://digikey.com/product-detail/en/tdk-corporation/CGA1A2C0G1H3R3C030BA/445-9046-1-ND/3648718; Device Package: 0201 (0603 Metric); LastUpdated: 9/2/2020 12:59:40 AM; Lifecycle Status: Active; Minimum Order: 1; Mounting Type: Surface Mount, MLCC; Operating Temperature: -55°C ~ 125°C; Package / Case: 0201 (0603 Metric); Packaging: TapeAndReel; PartId: 464; Part Status: Active; Price: 0.02; Ratings: AEC-Q200; Series: CGA; Size / Dimension: 0.024" L x 0.012" W (0.60mm x 0.30mm); Supplier 1: DigiKey; Supplier Part Number 1: 445-9046-1-ND; Thickness (Max): 0.013" (0.33mm); Voltage - Rated: 50V
footprint CAP 0201_0603
pins: 1, 2

## CGA1A2C0G1H4R7C030BA
designator C?, comment 4.7pF
CAP CER 4.7PF 50V C0G 0201; Part Number: CGA1A2C0G1H4R7C030BA; Manufacturer: TDK Corporation; Temperature Coefficient: C0G, NP0; Tolerance: ±0.25pF; Value: 4.7pF; Applications: Automotive; Capacitance: 4.7pF; ComponentLink1Description: Datasheet; ComponentLink1URL: https://product.tdk.com/info/en/catalog/datasheets/mlcc_automotive_general_en.pdf?ref_disty=digikey; ComponentLink2Description: DigiKey Link; ComponentLink2URL: http://digikey.com/product-detail/en/tdk-corporation/CGA1A2C0G1H4R7C030BA/445-9057-1-ND/3648721; Device Package: 0201 (0603 Metric); LastUpdated: 9/2/2020 12:57:52 AM; Lifecycle Status: Active; Minimum Order: 1; Mounting Type: Surface Mount, MLCC; Operating Temperature: -55°C ~ 125°C; Package / Case: 0201 (0603 Metric); Packaging: TapeAndReel; PartId: 1694; Part Status: Active; Price: 0.02; Ratings: AEC-Q200; Series: CGA; Size / Dimension: 0.024" L x 0.012" W (0.60mm x 0.30mm); Supplier 1: DigiKey; Supplier Part Number 1: 445-9057-1-ND; Thickness (Max): 0.013" (0.33mm); Voltage - Rated: 50V
footprint CAP 0201_0603
pins: 1, 2

## CGA1A2C0G1H6R8D030BA
designator C?, comment 6.8pF
CAP CER 6.8PF 50V C0G 0201; Part Number: CGA1A2C0G1H6R8D030BA; Manufacturer: TDK Corporation; Temperature Coefficient: C0G, NP0; Tolerance: ±0.5pF; Value: 6.8pF; Applications: Automotive; Capacitance: 6.8pF; ComponentLink1Description: Datasheet; ComponentLink1URL: https://product.tdk.com/info/en/catalog/datasheets/mlcc_automotive_general_en.pdf?ref_disty=digikey; ComponentLink2Description: DigiKey Link; ComponentLink2URL: http://digikey.com/product-detail/en/tdk-corporation/CGA1A2C0G1H6R8D030BA/445-9068-1-ND/3648622; Device Package: 0201 (0603 Metric); LastUpdated: 9/2/2020 12:58:46 AM; Lifecycle Status: Active; Minimum Order: 1; Mounting Type: Surface Mount, MLCC; Operating Temperature: -55°C ~ 125°C; Package / Case: 0201 (0603 Metric); Packaging: TapeAndReel; PartId: 1087; Part Status: Active; Price: 0.02; Ratings: AEC-Q200; Series: CGA; Size / Dimension: 0.024" L x 0.012" W (0.60mm x 0.30mm); Supplier 1: DigiKey; Supplier Part Number 1: 445-9068-1-ND; Thickness (Max): 0.013" (0.33mm); Voltage - Rated: 50V
footprint CAP 0201_0603
pins: 1, 2

## CGA1A2C0G1H010C030BA
designator C?, comment 1pF
CAP CER 1PF 50V C0G 0201; Part Number: CGA1A2C0G1H010C030BA; Manufacturer: TDK Corporation; Temperature Coefficient: C0G, NP0; Tolerance: ±0.25pF; Value: 1pF; Applications: Automotive; Capacitance: 1pF; ComponentLink1Description: Datasheet; ComponentLink1URL: https://product.tdk.com/info/en/catalog/datasheets/mlcc_automotive_general_en.pdf?ref_disty=digikey; ComponentLink2Description: DigiKey Link; ComponentLink2URL: http://digikey.com/product-detail/en/tdk-corporation/CGA1A2C0G1H010C030BA/445-9033-1-ND/3648700; Device Package: 0201 (0603 Metric); LastUpdated: 9/2/2020 12:59:43 AM; Lifecycle Status: Active; Minimum Order: 1; Mounting Type: Surface Mount, MLCC; Operating Temperature: -55°C ~ 125°C; Package / Case: 0201 (0603 Metric); Packaging: TapeAndReel; PartId: 426; Part Status: Active; Price: 0.02; Ratings: AEC-Q200; Series: CGA; Size / Dimension: 0.024" L x 0.012" W (0.60mm x 0.30mm); Supplier 1: DigiKey; Supplier Part Number 1: 445-9033-1-ND; Thickness (Max): 0.013" (0.33mm); Voltage - Rated: 50V
footprint CAP 0201_0603
pins: 1, 2

## CGA1A2C0G1H020C030BA
designator C?, comment 2pF
CAP CER 2PF 50V C0G 0201; Part Number: CGA1A2C0G1H020C030BA; Manufacturer: TDK Corporation; Temperature Coefficient: C0G, NP0; Tolerance: ±0.25pF; Value: 2pF; Applications: Automotive; Capacitance: 2pF; ComponentLink1Description: Datasheet; ComponentLink1URL: https://product.tdk.com/info/en/catalog/datasheets/mlcc_automotive_general_en.pdf?ref_disty=digikey; ComponentLink2Description: DigiKey Link; ComponentLink2URL: http://digikey.com/product-detail/en/tdk-corporation/CGA1A2C0G1H020C030BA/445-12053-1-ND/3953719; Device Package: 0201 (0603 Metric); LastUpdated: 9/2/2020 12:59:43 AM; Lifecycle Status: Active; Minimum Order: 1; Mounting Type: Surface Mount, MLCC; Operating Temperature: -55°C ~ 125°C; Package / Case: 0201 (0603 Metric); Packaging: TapeAndReel; PartId: 427; Part Status: Active; Price: 0.02; Ratings: AEC-Q200; Series: CGA; Size / Dimension: 0.024" L x 0.012" W (0.60mm x 0.30mm); Supplier 1: DigiKey; Supplier Part Number 1: 445-12053-1-ND; Thickness (Max): 0.013" (0.33mm); Voltage - Rated: 50V
footprint CAP 0201_0603
pins: 1, 2

## CGA1A2C0G1H030C030BA
designator C?, comment 3pF
CAP CER 3PF 50V C0G 0201; Part Number: CGA1A2C0G1H030C030BA; Manufacturer: TDK Corporation; Temperature Coefficient: C0G, NP0; Tolerance: ±0.25pF; Value: 3pF; Applications: Automotive; Capacitance: 3pF; ComponentLink1Description: Datasheet; ComponentLink1URL: https://product.tdk.com/info/en/catalog/datasheets/mlcc_automotive_general_en.pdf?ref_disty=digikey; ComponentLink2Description: DigiKey Link; ComponentLink2URL: http://digikey.com/product-detail/en/tdk-corporation/CGA1A2C0G1H030C030BA/445-9016-1-ND/3648667; Device Package: 0201 (0603 Metric); LastUpdated: 9/2/2020 12:59:22 AM; Lifecycle Status: Active; Minimum Order: 1; Mounting Type: Surface Mount, MLCC; Operating Temperature: -55°C ~ 125°C; Package / Case: 0201 (0603 Metric); Packaging: TapeAndReel; PartId: 665; Part Status: Active; Price: 0.02; Ratings: AEC-Q200; Series: CGA; Size / Dimension: 0.024" L x 0.012" W (0.60mm x 0.30mm); Supplier 1: DigiKey; Supplier Part Number 1: 445-9016-1-ND; Thickness (Max): 0.013" (0.33mm); Voltage - Rated: 50V
footprint CAP 0201_0603
pins: 1, 2

## CGA1A2C0G1H040C030BA
designator C?, comment 4pF
CAP CER 4PF 50V C0G 0201; Part Number: CGA1A2C0G1H040C030BA; Manufacturer: TDK Corporation; Temperature Coefficient: C0G, NP0; Tolerance: ±0.25pF; Value: 4pF; Applications: Automotive; Capacitance: 4pF; ComponentLink1Description: Datasheet; ComponentLink1URL: https://product.tdk.com/info/en/catalog/datasheets/mlcc_automotive_general_en.pdf?ref_disty=digikey; ComponentLink2Description: DigiKey Link; ComponentLink2URL: http://digikey.com/product-detail/en/tdk-corporation/CGA1A2C0G1H040C030BA/445-12054-1-ND/3953720; Device Package: 0201 (0603 Metric); LastUpdated: 9/2/2020 12:59:19 AM; Lifecycle Status: Active; Minimum Order: 1; Mounting Type: Surface Mount, MLCC; Operating Temperature: -55°C ~ 125°C; Package / Case: 0201 (0603 Metric); Packaging: TapeAndReel; PartId: 702; Part Status: Active; Price: 0.02; Ratings: AEC-Q200; Series: CGA; Size / Dimension: 0.024" L x 0.012" W (0.60mm x 0.30mm); Supplier 1: DigiKey; Supplier Part Number 1: 445-12054-1-ND; Thickness (Max): 0.013" (0.33mm); Voltage - Rated: 50V
footprint CAP 0201_0603
pins: 1, 2

## CGA1A2C0G1H050C030BA
designator C?, comment 5pF
CAP CER 5PF 50V C0G 0201; Part Number: CGA1A2C0G1H050C030BA; Manufacturer: TDK Corporation; Temperature Coefficient: C0G, NP0; Tolerance: ±0.25pF; Value: 5pF; Applications: Automotive; Capacitance: 5pF; ComponentLink1Description: Datasheet; ComponentLink1URL: https://product.tdk.com/info/en/catalog/datasheets/mlcc_automotive_general_en.pdf?ref_disty=digikey; ComponentLink2Description: DigiKey Link; ComponentLink2URL: http://digikey.com/product-detail/en/tdk-corporation/CGA1A2C0G1H050C030BA/445-9052-1-ND/3648615; Device Package: 0201 (0603 Metric); LastUpdated: 9/2/2020 12:59:41 AM; Lifecycle Status: Active; Minimum Order: 1; Mounting Type: Surface Mount, MLCC; Operating Temperature: -55°C ~ 125°C; Package / Case: 0201 (0603 Metric); Packaging: TapeAndReel; PartId: 448; Part Status: Active; Price: 0.02; Ratings: AEC-Q200; Series: CGA; Size / Dimension: 0.024" L x 0.012" W (0.60mm x 0.30mm); Supplier 1: DigiKey; Supplier Part Number 1: 445-9052-1-ND; Thickness (Max): 0.013" (0.33mm); Voltage - Rated: 50V
footprint CAP 0201_0603
pins: 1, 2

## CGA1A2C0G1H060D030BA
designator C?, comment 6pF
CAP CER 6PF 50V C0G 0201; Part Number: CGA1A2C0G1H060D030BA; Manufacturer: TDK Corporation; Temperature Coefficient: C0G, NP0; Tolerance: ±0.5pF; Value: 6pF; Applications: Automotive; Capacitance: 6pF; ComponentLink1Description: Datasheet; ComponentLink1URL: https://product.tdk.com/info/en/catalog/datasheets/mlcc_automotive_general_en.pdf?ref_disty=digikey; ComponentLink2Description: DigiKey Link; ComponentLink2URL: http://digikey.com/product-detail/en/tdk-corporation/CGA1A2C0G1H060D030BA/445-12055-1-ND/3953721; Device Package: 0201 (0603 Metric); LastUpdated: 9/2/2020 12:59:19 AM; Lifecycle Status: Active; Minimum Order: 1; Mounting Type: Surface Mount, MLCC; Operating Temperature: -55°C ~ 125°C; Package / Case: 0201 (0603 Metric); Packaging: TapeAndReel; PartId: 701; Part Status: Active; Price: 0.02; Ratings: AEC-Q200; Series: CGA; Size / Dimension: 0.024" L x 0.012" W (0.60mm x 0.30mm); Supplier 1: DigiKey; Supplier Part Number 1: 445-12055-1-ND; Thickness (Max): 0.013" (0.33mm); Voltage - Rated: 50V
footprint CAP 0201_0603
pins: 1, 2

## CGA1A2C0G1H070D030BA
designator C?, comment 7pF
CAP CER 7PF 50V C0G 0201; Part Number: CGA1A2C0G1H070D030BA; Manufacturer: TDK Corporation; Temperature Coefficient: C0G, NP0; Tolerance: ±0.5pF; Value: 7pF; Applications: Automotive; Capacitance: 7pF; ComponentLink1Description: Datasheet; ComponentLink1URL: https://product.tdk.com/info/en/catalog/datasheets/mlcc_automotive_general_en.pdf?ref_disty=digikey; ComponentLink2Description: DigiKey Link; ComponentLink2URL: http://digikey.com/product-detail/en/tdk-corporation/CGA1A2C0G1H070D030BA/445-12056-1-ND/3953722; Device Package: 0201 (0603 Metric); LastUpdated: 9/2/2020 12:59:38 AM; Lifecycle Status: Active; Minimum Order: 1; Mounting Type: Surface Mount, MLCC; Operating Temperature: -55°C ~ 125°C; Package / Case: 0201 (0603 Metric); Packaging: TapeAndReel; PartId: 482; Part Status: Active; Price: 0.02; Ratings: AEC-Q200; Series: CGA; Size / Dimension: 0.024" L x 0.012" W (0.60mm x 0.30mm); Supplier 1: DigiKey; Supplier Part Number 1: 445-12056-1-ND; Thickness (Max): 0.013" (0.33mm); Voltage - Rated: 50V
footprint CAP 0201_0603
pins: 1, 2

## CGA1A2C0G1H080D030BA
designator C?, comment 8pF
CAP CER 8PF 50V C0G 0201; Part Number: CGA1A2C0G1H080D030BA; Manufacturer: TDK Corporation; Temperature Coefficient: C0G, NP0; Tolerance: ±0.5pF; Value: 8pF; Applications: Automotive; Capacitance: 8pF; ComponentLink1Description: Datasheet; ComponentLink1URL: https://product.tdk.com/info/en/catalog/datasheets/mlcc_automotive_general_en.pdf?ref_disty=digikey; ComponentLink2Description: DigiKey Link; ComponentLink2URL: http://digikey.com/product-detail/en/tdk-corporation/CGA1A2C0G1H080D030BA/445-12057-1-ND/3953723; Device Package: 0201 (0603 Metric); LastUpdated: 9/2/2020 12:58:02 AM; Lifecycle Status: Active; Minimum Order: 1; Mounting Type: Surface Mount, MLCC; Operating Temperature: -55°C ~ 125°C; Package / Case: 0201 (0603 Metric); Packaging: TapeAndReel; PartId: 1580; Part Status: Active; Price: 0.02; Ratings: AEC-Q200; Series: CGA; Size / Dimension: 0.024" L x 0.012" W (0.60mm x 0.30mm); Supplier 1: DigiKey; Supplier Part Number 1: 445-12057-1-ND; Thickness (Max): 0.013" (0.33mm); Voltage - Rated: 50V
footprint CAP 0201_0603
pins: 1, 2